# Altium integrated library ABM3-20.000MHZ-B2-T.IntLib: 1 symbol
Pins are listed as number, name and electrical type; pins without a type are passive.

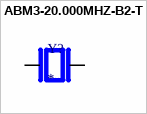
[diagram p0: symbol ABM3-20.000MHZ-B2-T]

## ABM3-20.000MHZ-B2-T
designator Y?
20 MHz Â±20ppm Crystal 18pF 30 Ohms 2-SMD, No Lead; MP: ABM3-20.000MHZ-B2-T; MF: Abracon; SnapEDA_Link: https://www.snapeda.com/parts/ABM3-20.000MHZ-B2-T/Abracon+LLC/view-part/?ref=snap; Price: None; Purchase-URL: https://pricing.snapeda.com/search/part/ABM3-20.000MHZ-B2-T/?ref=eda; Package: SMD-2 Abracon; Availability: In Stock; Value: *; Check_prices: https://www.snapeda.com/parts/ABM3-20.000MHZ-B2-T/Abracon+LLC/view-part/?ref=eda
footprint XTAL_ABM3-20.000MHZ-B2-T
pins: 1, 2